# Altium footprint library Capacitors Polymer.PcbLib: 1 footprints
Each footprint in its own frame and in the unit in brackets; x right, y up, seen from the top. Pads: shape width x height; smd on the part's side, far side on the other; paste and mask are expansions set on the pad; w line width, h text height; cw(c..) or ccw(c..) is an arc to the next point about the centre after c.
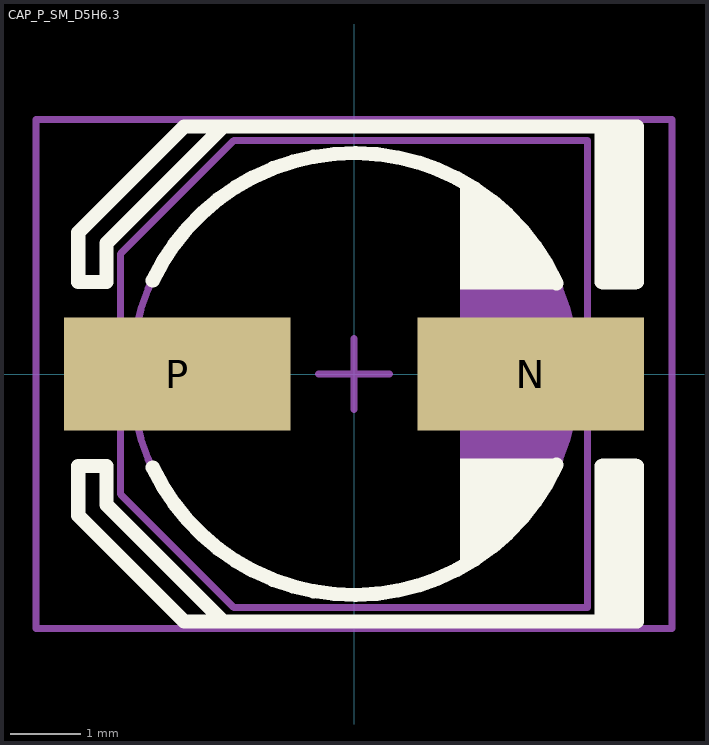
[diagram p0: the footprint, top view; thin cyan lines are the x and y axes]

## CAP_P_SM_D5H6.3 [mm]
height 7.7
pads (2):
  rect 3.2x1.6 smd: N(2.5,0) P(-2.5,0)
Top Overlay:
  region: 3.5,3.5 4,3.5 4,1.2 3.5,1.2
  region: 1.5,-2.7 1.641,-2.661 1.904,-2.53 2.135,-2.349 2.327,-2.128 2.4,-2 2.449,-1.946 2.537,-1.828 2.612,-1.702 2.675,-1.569 2.7,-1.5 2.731,-1.466 2.788,-1.394 2.841,-1.319 2.89,-1.241 2.911,-1.2 1.5,-1.2
  region: 1.5,2.7 1.641,2.661 1.904,2.53 2.135,2.349 2.327,2.128 2.4,2 2.449,1.946 2.537,1.828 2.612,1.702 2.675,1.569 2.7,1.5 2.731,1.466 2.788,1.394 2.841,1.319 2.89,1.241 2.911,1.2 1.5,1.2
  region: 3.5,-3.5 4,-3.5 4,-1.2 3.5,-1.2
  lines w0.2: -2.847,-1.322 ccw(c0,0.025) 2.865,-1.284 ; -2.847,1.322 cw(c0,-0.025) 2.865,1.284 ; -1.9,-3.5 -2.4,-3.5 -3.9,-2 -3.9,-1.3 -3.5,-1.3 -3.5,-1.85 -1.85,-3.5 ; -1.9,3.5 -2.4,3.5 -3.9,2 -3.9,1.3 -3.5,1.3 -3.5,1.85 -1.85,3.5 4,3.5 4,1.3 ; -1.875,-3.5 4,-3.5 4,-1.3 ; 3.5,-3.5 3.5,-1.3 ; 3.5,1.3 3.5,3.5
Top Package:
  circle w0.1: c0,0 r3.15
  region: 1.5,2.8 1.583,2.761 1.741,2.666 1.888,2.556 2.025,2.432 2.086,2.364 2.147,2.323 2.261,2.229 2.366,2.125 2.459,2.011 2.5,1.95 2.574,1.852 2.702,1.644 2.809,1.423 2.894,1.193 2.925,1.075 2.976,0.966 3.055,0.74 3.111,0.507 3.145,0.27 3.15,0.15 3.15,-0.15 3.148,-0.32 3.098,-0.655 3.003,-0.981 2.865,-1.291 2.775,-1.435 2.753,-1.501 2.696,-1.629 2.627,-1.75 2.546,-1.863 2.5,-1.915 2.459,-1.977 2.366,-2.091 2.262,-2.195 2.148,-2.288 2.086,-2.329 2.028,-2.404 1.895,-2.54 1.747,-2.659 1.586,-2.76 1.5,-2.8
  lines w0.1: -3.3,-1.7 -1.7,-3.3 3.3,-3.3 3.3,3.3 -1.7,3.3 -3.3,1.7 -3.3,-1.7
Top Border:
  lines w0.1: -0.498,-0.001 0.502,-0.001 ; 0.002,-0.501 0.002,0.499 ; -4.5,-3.6 4.5,-3.6 4.5,3.6 -4.5,3.6 -4.5,-3.6
3D body "ALU-D8.STEP": height 7.7, standoff 0, extent -3.5,-3.3 3.5,3.3